# Altium footprint library 36103505S.PcbLib: 1 footprints
Each footprint in its own frame and in the unit in brackets; x right, y up, seen from the top. Pads: shape width x height; smd on the part's side, far side on the other; paste and mask are expansions set on the pad; w line width, h text height; cw(c..) or ccw(c..) is an arc to the next point about the centre after c.
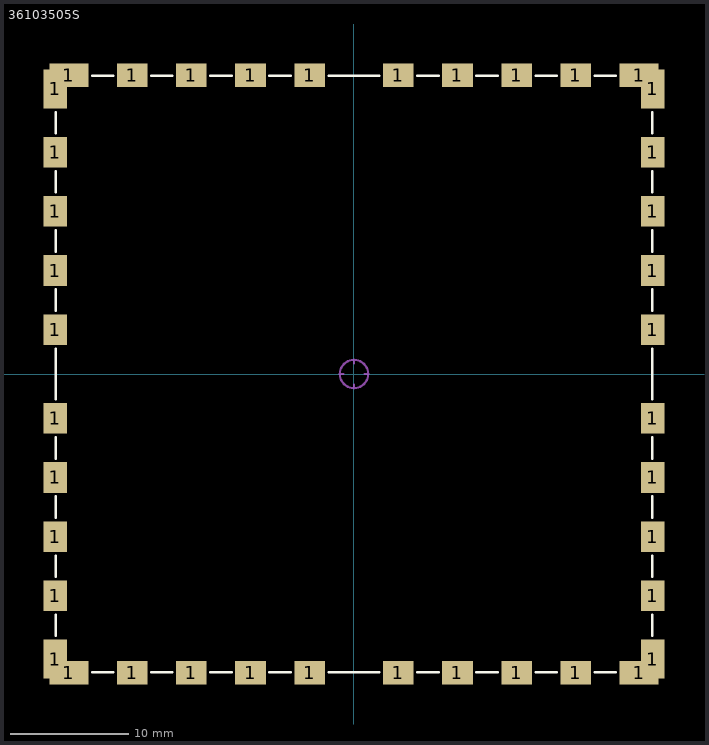
[diagram p0: the footprint, top view; thin cyan lines are the x and y axes]

## 36103505S [mm]
pads (40):
  rect 2x3.3 smd: 1(-25.25,-24.1) 1(-25.25,24.1) 1(25.25,-24.1) 1(25.25,24.1)
  rect 2x2.6 smd: 1(-25.25,-18.75) 1(-25.25,-13.75) 1(-25.25,-8.75) 1(-25.25,-3.75) 1(-25.25,3.75) 1(-25.25,8.75) 1(-25.25,13.75) 1(-25.25,18.75) 1(25.25,-18.75) 1(25.25,-13.75) 1(25.25,-8.75) 1(25.25,-3.75) 1(25.25,3.75) 1(25.25,8.75) 1(25.25,13.75) 1(25.25,18.75)
  rect 3.3x2 smd: 1(-24.1,-25.25) 1(-24.1,25.25) 1(24.1,-25.25) 1(24.1,25.25)
  rect 2.6x2 smd: 1(-18.75,-25.25) 1(-18.75,25.25) 1(-13.75,-25.25) 1(-13.75,25.25) 1(-8.75,-25.25) 1(-8.75,25.25) 1(-3.75,-25.25) 1(-3.75,25.25) 1(3.75,-25.25) 1(3.75,25.25) 1(8.75,-25.25) 1(8.75,25.25) 1(13.75,-25.25) 1(13.75,25.25) 1(18.75,-25.25) 1(18.75,25.25)
Top Overlay:
  lines w0.2: -25.2,-22.15 -25.2,-20.35 ; -25.2,-17.15 -25.2,-15.35 ; -25.2,-12.15 -25.2,-10.35 ; -25.2,-7.15 -25.2,-5.35 ; -25.2,-2.15 -25.2,2.15 ; -25.2,5.35 -25.2,7.15 ; -25.2,10.35 -25.2,12.15 ; -25.2,15.35 -25.2,17.15 ; -25.2,20.35 -25.2,22.15 ; -22.15,-25.2 -20.35,-25.2 ; -22.15,25.2 -20.35,25.2 ; -17.15,-25.2 -15.35,-25.2 ; -17.15,25.2 -15.35,25.2 ; -12.15,-25.2 -10.35,-25.2 ; -12.15,25.2 -10.35,25.2 ; -7.15,-25.2 -5.35,-25.2 ; -7.15,25.2 -5.35,25.2 ; -2.15,-25.2 2.15,-25.2 ; -2.15,25.2 2.15,25.2 ; 5.35,-25.2 7.15,-25.2 ; 5.35,25.2 7.15,25.2 ; 10.35,-25.2 12.15,-25.2 ; 10.35,25.2 12.15,25.2 ; 15.35,-25.2 17.15,-25.2 ; 15.35,25.2 17.15,25.2 ; 20.35,-25.2 22.15,-25.2 ; 20.35,25.2 22.15,25.2 ; 25.2,-22.15 25.2,-20.35 ; 25.2,-17.15 25.2,-15.35 ; 25.2,-12.15 25.2,-10.35 ; 25.2,-7.15 25.2,-5.35 ; 25.2,-2.15 25.2,2.15 ; 25.2,5.35 25.2,7.15 ; 25.2,10.35 25.2,12.15 ; 25.2,15.35 25.2,17.15 ; 25.2,20.35 25.2,22.15
Mechanical 1:
  circle w0.2: c0,0 r1.2
  lines w0.2: -1.2,0 -0.9,0 ; 0,-1.2 0,-0.9 ; 0,0.9 0,1.2 ; 0.9,0 1.2,0
3D body "36103505S.stp": height 3.2, standoff 0, extent -25.2,-25.2 25.2,25.2